# Altium schematic symbol library SM12B-SRSS-TBLFSN.SchLib: 1 symbol
Pins are listed as number, name and electrical type; pins without a type are passive.

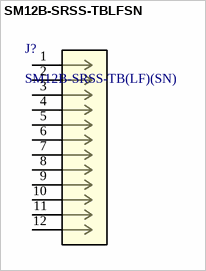
[diagram p0: symbol SM12B-SRSS-TBLFSN]

## SM12B-SRSS-TBLFSN
designator J?, comment SM12B-SRSS-TB(LF)(SN)
Description; Manufacturer_Name: JST; Copyright: Copyright (C) 2025 Ultra Librarian. All rights reserved.; Manufacturer_Part_Number: SM12B-SRSS-TB(LF)(SN); RefDes: RefDes; Type: Type
footprint CONN_SM12B-SRSS-TBLFSN_JST
pins: 1, 2, 3, 4, 5, 6, 7, 8, 9, 10, 11, 12